# EAGLE library part CHIPCAP2 (library EE)
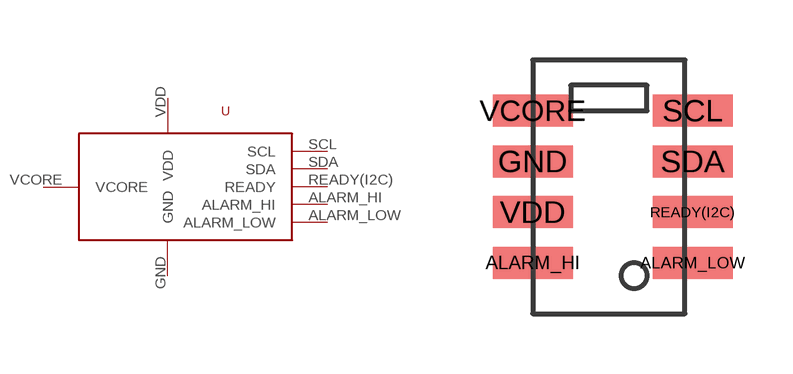
[diagram p10: symbol with the pads of CHIPCAP2; footprint CHIPCAP2]

Designator prefix -

## CHIPCAP2  [CHIPCAP2]
ALARM_HI  ALARM_HI
ALARM_LOW  ALARM_LOW
GND  GND
READY(I2C)  READY
SCL  SCL
SDA  SDA
VCORE  VCORE
VDD  VDD

## Footprint CHIPCAP2 (pad centres in mm)
smd 2 x 0.8: ALARM_HI 0,0; ALARM_LOW 4,0; GND 0,2.54; READY(I2C) 4,1.27; SCL 4,3.81; SDA 4,2.54; VCORE 0,3.81; VDD 0,1.27